# Altium footprint library ind.PcbLib: 38 footprints (part 3 of 3)
Each footprint in its own frame and in the unit in brackets; x right, y up, seen from the top. Pads: shape width x height; smd on the part's side, far side on the other; paste and mask are expansions set on the pad; w line width, h text height; cw(c..) or ccw(c..) is an arc to the next point about the centre after c.
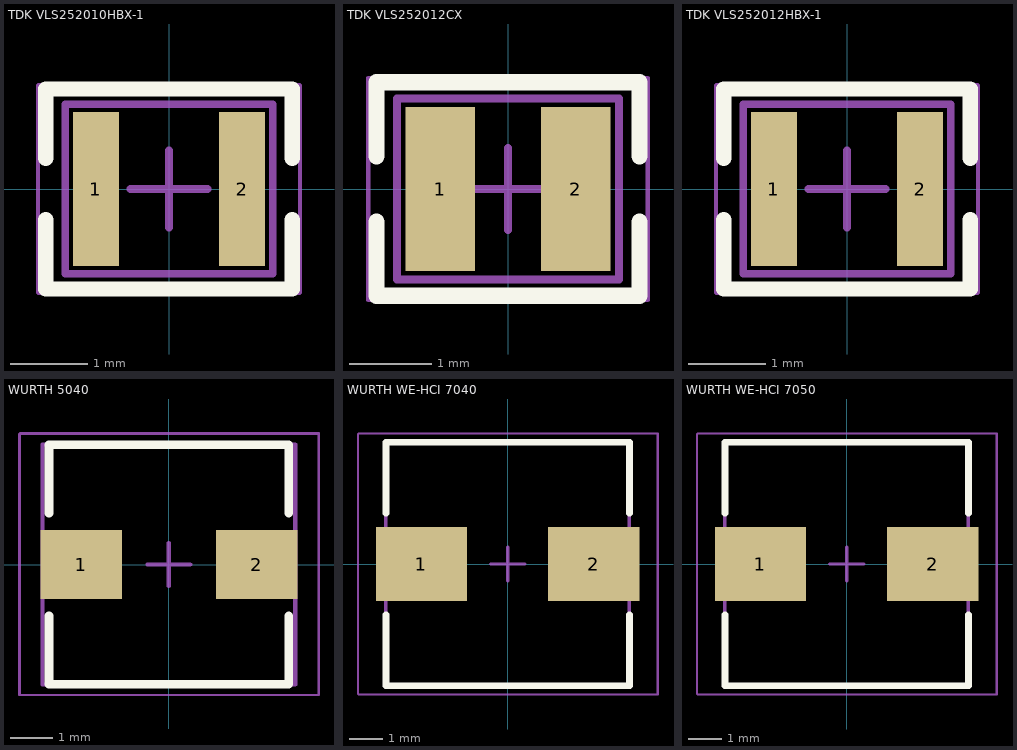
[diagram p2: the footprints below, top view; thin cyan lines are the x and y axes]

## TDK VLS252010HBX-1 [mm] "Inductor, 2-Leads, Body 2.50x2.00mm, IPC Medium Density"
height 1
pads (2):
  rect 0.6x2 smd: 1(-0.95,0) 2(0.95,0)
Top Overlay:
  lines w0.2: -1.6,-0.4 -1.6,-1.3 1.6,-1.3 1.6,-0.4 ; -1.6,0.4 -1.6,1.3 1.6,1.3 1.6,0.4
Mechanical 13:
  lines w0.1: -1.35,-1.1 -1.35,1.1 1.35,1.1 1.35,-1.1 -1.35,-1.1
M15:
  lines w0.051: -1.702,-1.346 1.702,-1.346 1.702,1.346 -1.702,1.346 -1.702,-1.346
  text ".Designator" at -0.508,-0.356 h1.27
Component Center:
  lines w0.05: -1.7,-1.35 -1.7,1.35 1.7,1.35 1.7,-1.35 -1.7,-1.35
  lines w0.1: -0.5,0 0.5,0 ; 0,-0.5 0,0.5
3D body "VLS252010HBX-1.STEP": height 1.2, standoff 0, extent -1.25,-1 1.25,1

## TDK VLS252012CX [mm] "Inductor, 2-Leads, Body 2.50x2.00mm, IPC Medium Density"
height 1.2
pads (2):
  rect 0.85x2 smd: 1(-0.825,0) 2(0.825,0)
Top Overlay:
  lines w0.2: -1.6,-0.4 -1.6,-1.3 1.6,-1.3 1.6,-0.4 ; -1.6,0.4 -1.6,1.3 1.6,1.3 1.6,0.4
Mechanical 13:
  lines w0.1: -1.35,-1.1 1.35,-1.1 1.35,1.1 -1.35,1.1 -1.35,-1.1
M15:
  lines w0.051: -1.702,-1.346 1.702,-1.346 1.702,1.346 -1.702,1.346 -1.702,-1.346
  text ".Designator" at -0.508,-0.356 h1.27
Component Center:
  lines w0.05: -1.7,-1.35 1.7,-1.35 1.7,1.35 -1.7,1.35 -1.7,-1.35
  lines w0.1: -0.5,0 0.5,0 ; 0,-0.5 0,0.5
3D body "VLS252012CX.STEP": height 1.2, standoff 0, extent -1.25,-1 1.25,1

## TDK VLS252012HBX-1 [mm] "Inductor, 2-Leads, Body 2.50x2.00mm, IPC Medium Density"
height 1.2
pads (2):
  rect 0.6x2 smd: 1(-0.95,0) 2(0.95,0)
Top Overlay:
  lines w0.2: -1.6,-0.4 -1.6,-1.3 1.6,-1.3 1.6,-0.4 ; -1.6,0.4 -1.6,1.3 1.6,1.3 1.6,0.4
Mechanical 13:
  lines w0.1: -1.35,-1.1 -1.35,1.1 1.35,1.1 1.35,-1.1 -1.35,-1.1
M15:
  lines w0.051: -1.702,-1.346 1.702,-1.346 1.702,1.346 -1.702,1.346 -1.702,-1.346
  text ".Designator" at -0.508,-0.356 h1.27
Component Center:
  lines w0.05: -1.7,-1.35 1.7,-1.35 1.7,1.35 -1.7,1.35 -1.7,-1.35
  lines w0.1: -0.5,0 0.5,0 ; 0,-0.5 0,0.5
3D body "VLS252012HBX-1.STEP": height 1.2, standoff 0, extent -1.25,-1 1.25,1

## WURTH 5040 [mm] "Wire Wound Inductor, 2-Leads, Body 5.60x5.30mm, IPC Medium Density"
height 4.3
pads (2):
  rect 1.9x1.6 smd: 1(-2.05,0) 2(2.05,0)
Top Overlay:
  lines w0.2: -2.8,-1.2 -2.8,-2.8 2.8,-2.8 2.8,-1.2 ; -2.8,1.2 -2.8,2.8 2.8,2.8 2.8,1.2
Mechanical 13:
  lines w0.1: -2.95,-2.8 2.95,-2.8 2.95,2.8 -2.95,2.8 -2.95,-2.8
M15:
  lines w0.051: -3.48,-3.048 -3.48,3.073 3.505,3.073 3.505,-3.048 -3.48,-3.048
  text ".Designator" at -1.041,-0.737 h2.54
Component Center:
  lines w0.05: -3.5,-3.05 -3.5,3.05 3.5,3.05 3.5,-3.05 -3.5,-3.05
  lines w0.1: -0.5,0 0.5,0 ; 0,-0.5 0,0.5
3D body "WE-HCI 5040.STEP": height 4, standoff 0, extent -2.79,-2.65 2.79,2.65

## WURTH WE-HCI 7040 [mm]
height 4
pads (2):
  rect 2.7x2.2 smd: 1(-2.55,0) 2(2.55,0)
Top Overlay:
  lines w0.2: -3.6,-1.5 -3.6,-3.6 3.6,-3.6 3.6,-1.5 ; -3.6,1.5 -3.6,3.6 3.6,3.6 3.6,1.5
Mechanical 13:
  lines w0.1: -3.6,-3.6 -3.6,3.6 3.6,3.6 3.6,-3.6 -3.6,-3.6
M15:
  lines w0.051: -4.42,-3.861 -4.42,3.861 4.445,3.861 4.445,-3.861 -4.42,-3.861
  text ".Designator" at -1.016,-0.711 h2.54
Component Center:
  lines w0.05: -4.425,-3.85 -4.425,3.85 4.425,3.85 4.425,-3.85 -4.425,-3.85
  lines w0.1: -0.5,0 0.5,0 ; 0,-0.5 0,0.5
3D body "WE-HCI 7040.STEP": height 4, standoff 0, extent -3.49,-3.45 3.49,3.45

## WURTH WE-HCI 7050 [mm]
height 5
pads (2):
  rect 2.7x2.2 smd: 1(-2.55,0) 2(2.55,0)
Top Overlay:
  lines w0.2: -3.6,-1.5 -3.6,-3.6 3.6,-3.6 3.6,-1.5 ; -3.6,1.5 -3.6,3.6 3.6,3.6 3.6,1.5
Mechanical 13:
  lines w0.1: -3.6,-3.6 3.6,-3.6 3.6,3.6 -3.6,3.6 -3.6,-3.6
M15:
  lines w0.051: -4.42,-3.861 -4.42,3.861 4.445,3.861 4.445,-3.861 -4.42,-3.861
  text ".Designator" at -1.016,-0.737 h2.54
Component Center:
  lines w0.05: -4.425,-3.85 -4.425,3.85 4.425,3.85 4.425,-3.85 -4.425,-3.85
  lines w0.1: -0.5,0 0.5,0 ; 0,-0.5 0,0.5
3D body "WE-HCI 7050.STEP": height 5, standoff 0, extent -3.49,-3.45 3.49,3.45